# EAGLE library part 610X1021121 (library Eagle_BOARD-TO-BOARD_CONNECTORS (rev18b))
WR-PHD 2.54mm Dual SMT Pin Header, 10 Pins =>Code : Con_BTB_PHD_2.54_2_610x1021121(packageing:x = 0: Tube x = 3: Tape & Reel with Cap; 300 pcs/Reel) <http://katalog.we-online.de/media/images/eican/Con_BTB_PHD_2.54_2_6100xx21121_pf2.jpg> 6100xx21121 Details see: http://katalog.we-online.de/en/em/610_0xx_211_21 6103xx21121 Details see: http://katalog.we-online.de/en/em/PHD_2_54_SMT_DUAL_PIN_HEADER_REEL_6103XX21121 2014 (C) Würth Elektronik
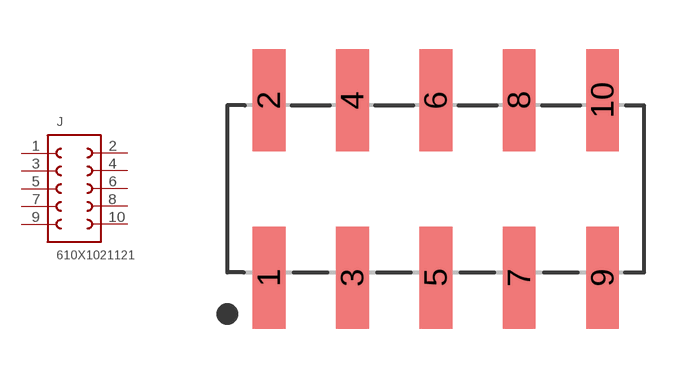
[diagram p75: symbol with the pads of 610X1021121; footprint 610X1021121]

Designator prefix J

## 610X1021121  [610X1021121]
1  1  pas
2  10  pas
3  2  pas
4  9  pas
5  3  pas
6  8  pas
7  4  pas
8  7  pas
9  5  pas
10  6  pas

## Footprint 610X1021121 (pad centres in mm)
WR-PHD 2.54mm Dual SMT Pin Header, 10 Pins
smd 1 x 3.1: 1 -5.08,-2.7; 2 -5.08,2.7; 3 -2.54,-2.7; 4 -2.54,2.7; 5 0,-2.7; 6 0,2.7; 7 2.54,-2.7; 8 2.54,2.7; 9 5.08,-2.7; 10 5.08,2.7